# Altium footprint library VL6180XV0NR_1.PcbLib: 1 footprints
Each footprint in its own frame and in the unit in brackets; x right, y up, seen from the top. Pads: shape width x height; smd on the part's side, far side on the other; paste and mask are expansions set on the pad; w line width, h text height; cw(c..) or ccw(c..) is an arc to the next point about the centre after c.
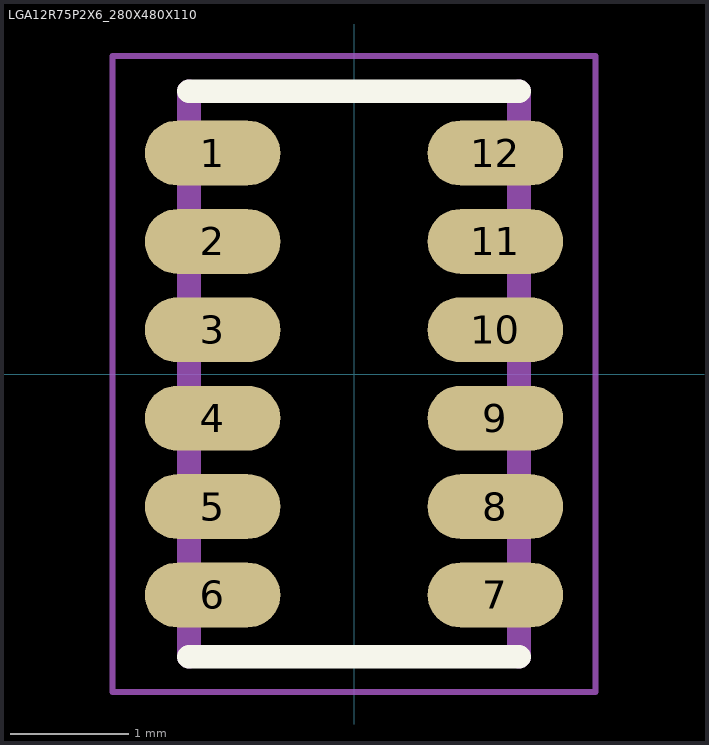
[diagram p0: the footprint, top view; thin cyan lines are the x and y axes]

## LGA12R75P2X6_280X480X110 [mm]
pads (12):
  oval 1.15x0.55 smd: 1(-1.2,1.875) 2(-1.2,1.125) 3(-1.2,0.375) 4(-1.2,-0.375) 5(-1.2,-1.125) 6(-1.2,-1.875) 7(1.2,-1.875) 8(1.2,-1.125) 9(1.2,-0.375) 10(1.2,0.375) 11(1.2,1.125) 12(1.2,1.875)
Top Overlay:
  lines w0.2: -1.4,-2.4 1.4,-2.4 ; -1.4,2.4 1.4,2.4
Mechanical 13:
  lines w0.2: -1.4,-2.4 -1.4,2.4 ; 1.4,-2.4 1.4,2.4
Mechanical 15:
  lines w0.05: -2.05,-2.7 2.05,-2.7 2.05,2.7 -2.05,2.7 -2.05,-2.7